# EAGLE library part ISO7810FDW (library Isolator)
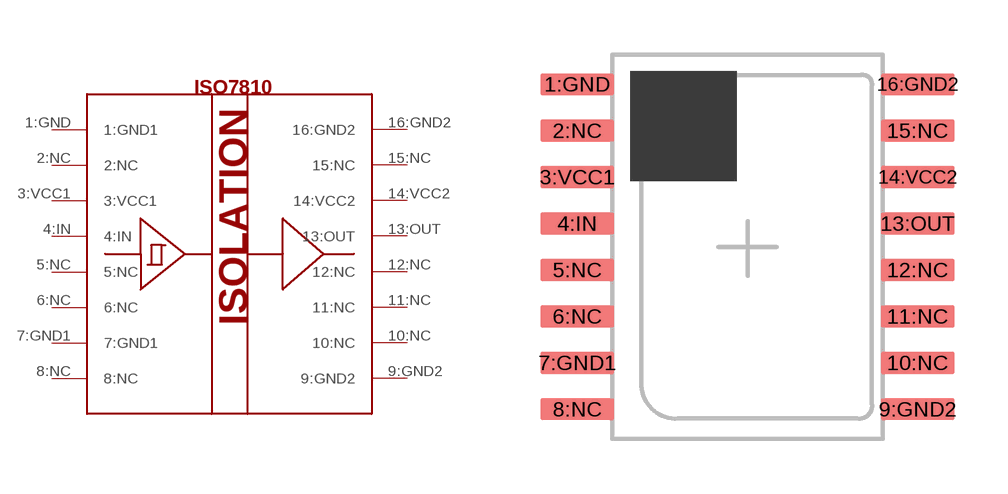
[diagram p0: symbol with the pads of ISO7810FDW; footprint ISO7810FDW]

Designator prefix -

## ISO7810FDW  [ISO7810FDW]
1:GND  1:GND1
2:NC  2:NC
3:VCC1  3:VCC1
4:IN  4:IN
5:NC  5:NC
6:NC  6:NC
7:GND1  7:GND1
8:NC  8:NC
9:GND2  9:GND2
10:NC  10:NC
11:NC  11:NC
12:NC  12:NC
13:OUT  13:OUT
14:VCC2  14:VCC2
15:NC  15:NC
16:GND2  16:GND2

## Footprint ISO7810FDW (pad centres in mm)
smd 2 x 0.6: 1:GND -4.65,4.445; 2:NC -4.65,3.175; 3:VCC1 -4.65,1.905; 4:IN -4.65,0.635; 5:NC -4.65,-0.635; 6:NC -4.65,-1.905; 7:GND1 -4.65,-3.175; 8:NC -4.65,-4.445; 9:GND2 4.65,-4.445; 10:NC 4.65,-3.175; 11:NC 4.65,-1.905; 12:NC 4.65,-0.635; 13:OUT 4.65,0.635; 14:VCC2 4.65,1.905; 15:NC 4.65,3.175; 16:GND2 4.65,4.445